# Altium footprint library PCB - ANNOTATION - SERIAL.PCBLIB: 1 footprints
Each footprint in its own frame and in the unit in brackets; x right, y up, seen from the top. Pads: shape width x height; smd on the part's side, far side on the other; paste and mask are expansions set on the pad; w line width, h text height; cw(c..) or ccw(c..) is an arc to the next point about the centre after c.
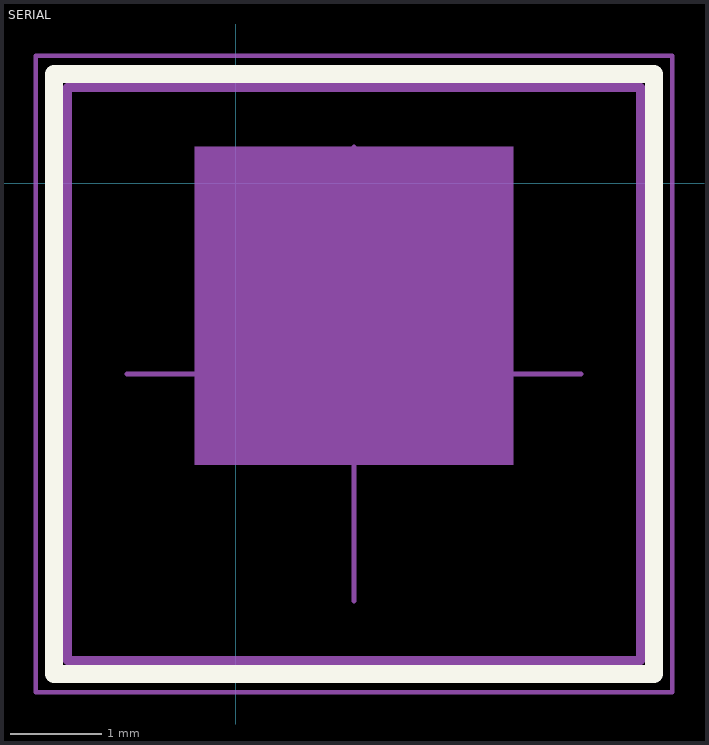
[diagram p0: the footprint, top view; thin cyan lines are the x and y axes]

## SERIAL [mm]
Top Overlay:
  lines w0.2: -2,-5.4 4.6,-5.4 4.6,1.2 -2,1.2 -2,-5.4
  text ".Comment" at -1.875,1.583 h2
Top Assembly:
  region: -0.45,0.4 -0.45,-3.1 3.05,-3.1 3.05,0.4
  lines w0.1: -1.85,-5.25 -1.85,1.05 4.45,1.05 4.45,-5.25 -1.85,-5.25
Top Courtyard:
  lines w0.05: -2.2,-5.6 4.8,-5.6 4.8,1.4 -2.2,1.4 -2.2,-5.6
Top Component Center:
  lines w0.05: -1.2,-2.1 3.8,-2.1 ; 1.3,-4.6 1.3,0.4
Top Value (Mech13):
  text ".Comment" at -1.397,-4.572 h1.5